# Altium footprint library Wurth_Elektronik_Passive_rev16a.PCBLIB: 810 footprints (part 21 of 51)
Each footprint in its own frame and in the unit in brackets; x right, y up, seen from the top. Pads: shape width x height; smd on the part's side, far side on the other; paste and mask are expansions set on the pad; w line width, h text height; cw(c..) or ccw(c..) is an arc to the next point about the centre after c.
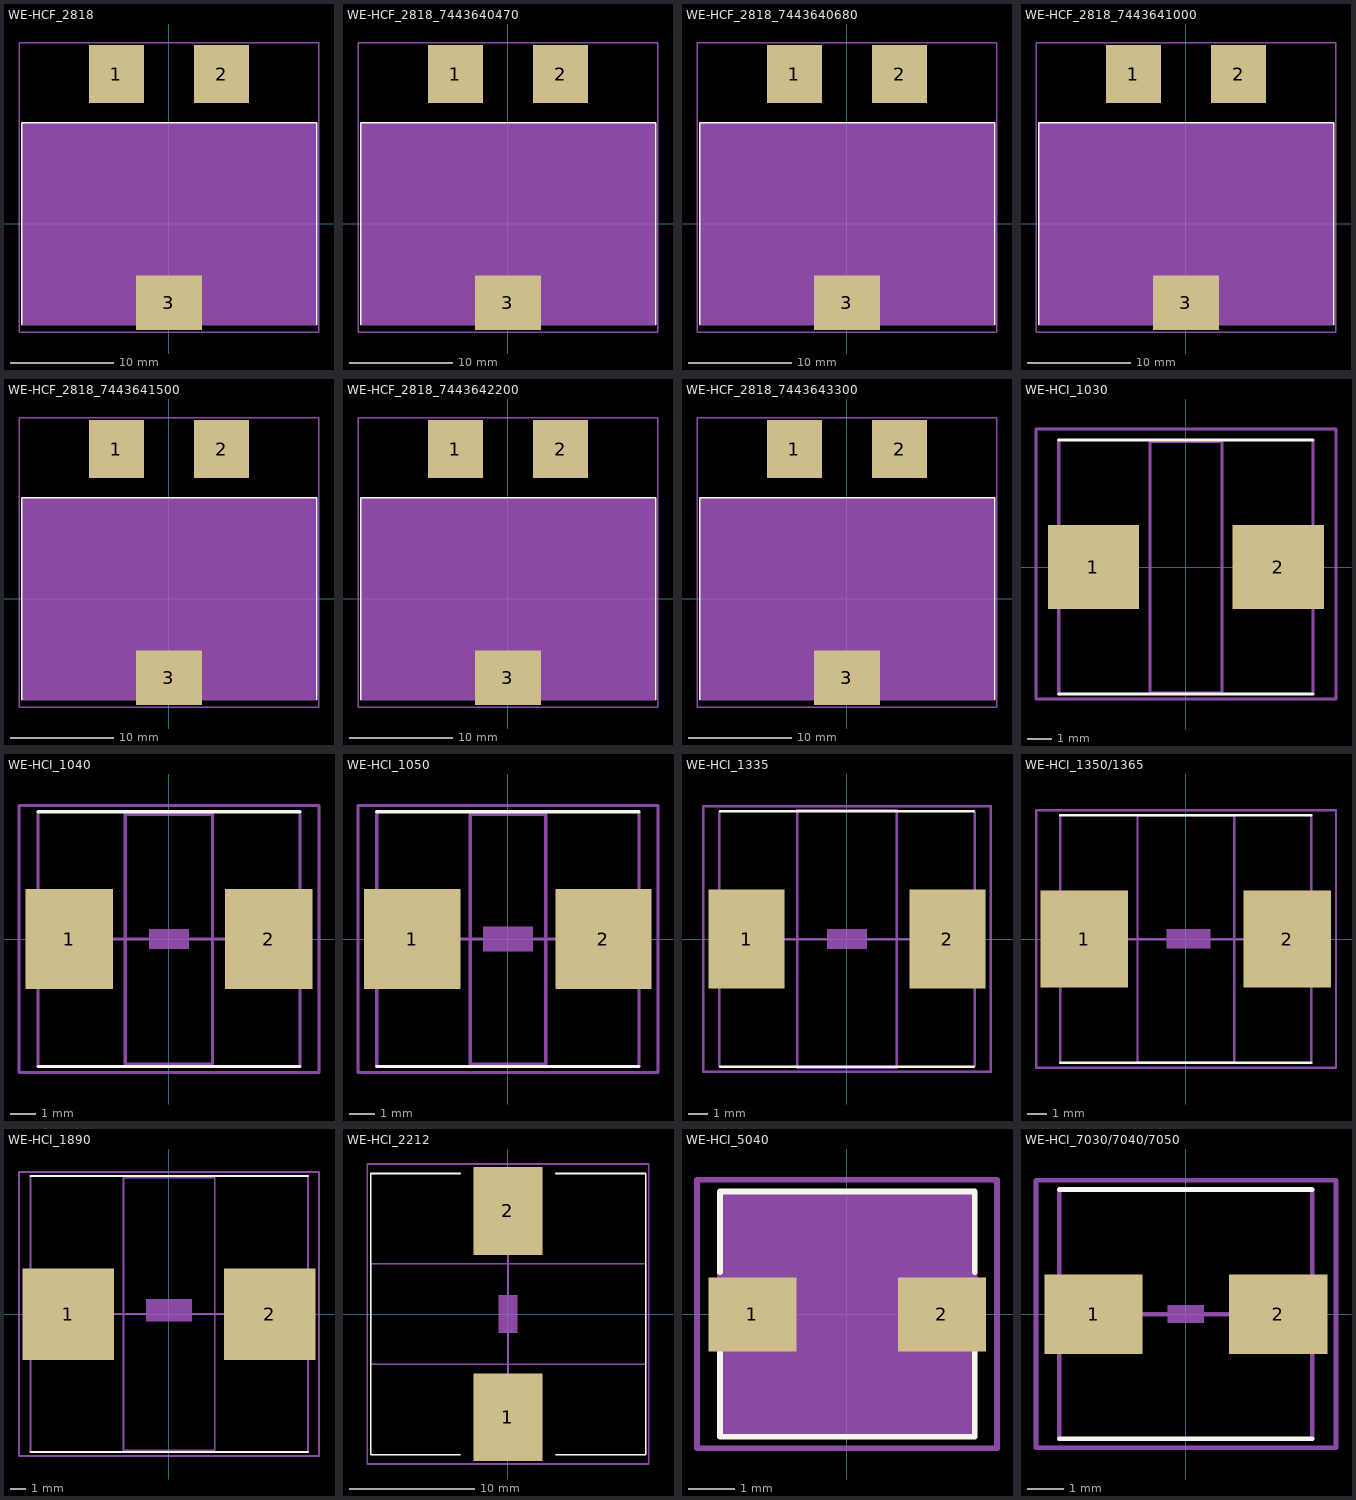
[diagram p20: the footprints below, top view; thin cyan lines are the x and y axes]

## WE-HCF_2818 [mil]
pads (3):
  rect 210x221 smd: 1(-199.8,570) 2(200,570)
  rect 250x208 smd: 3(0,-299.61)
Top Overlay:
  lines w5: -561.02,-383.86 -561.02,384 562,384 562,-383.86
Mechanical 2:
  text ">NAME" at -550,800 h77.5
  text ">VALUE" at -550,-650 h77.5
Mechanical 10:
  rectangle: -561.02,-383.86 562,384
Mechanical 16:
  lines w5: -561.02,-383.86 562,-383.86 ; -200,200 -100,200 ; 200,200 100,200 ; 100,200 100,250 -100,250 -100,150 100,150 100,200
Mechanical 27:
  lines w5: -570.87,-413.39 -570.87,690 571,690 571,-413.39 -570.87,-413.39

## WE-HCF_2818_7443640470 [mil]
pads (3):
  rect 210x221 smd: 1(-199.8,570) 2(200,570)
  rect 250x208 smd: 3(0,-299.61)
Top Overlay:
  lines w5: -561.02,-383.86 -561.02,384 562,384 562,-383.86
Mechanical 2:
  text ">NAME" at -600,800 h77.5
  text ">VALUE" at -550,-550 h77.5
Mechanical 10:
  rectangle: -561.02,-383.86 562,384
Mechanical 16:
  lines w5: -561.02,-383.86 562,-383.86 ; -200,200 -100,200 ; 200,200 100,200 ; 100,200 100,250 -100,250 -100,150 100,150 100,200
Mechanical 27:
  lines w5: -570.87,-413.39 -570.87,690 571,690 571,-413.39 -570.87,-413.39

## WE-HCF_2818_7443640680 [mil]
pads (3):
  rect 210x221 smd: 1(-199.8,570) 2(200,570)
  rect 250x208 smd: 3(0,-299.61)
Top Overlay:
  lines w5: -561.02,-383.86 -561.02,384 562,384 562,-383.86
Mechanical 2:
  text ">NAME" at -550,800 h77.5
  text ">VALUE" at -550,-550 h77.5
Mechanical 10:
  rectangle: -561.02,-383.86 562,384
Mechanical 16:
  lines w5: -561.02,-383.86 562,-383.86 ; -200,200 -100,200 ; 200,200 100,200 ; 100,200 100,250 -100,250 -100,150 100,150 100,200
Mechanical 27:
  lines w5: -570.87,-413.39 -570.87,690 571,690 571,-413.39 -570.87,-413.39

## WE-HCF_2818_7443641000 [mil]
pads (3):
  rect 210x221 smd: 1(-199.8,570) 2(200,570)
  rect 250x208 smd: 3(0,-299.61)
Top Overlay:
  lines w5: -561.02,-383.86 -561.02,384 562,384 562,-383.86
Mechanical 2:
  text ">NAME" at -600,800 h77.5
  text ">VALUE" at -550,-550 h77.5
Mechanical 10:
  rectangle: -561.02,-383.86 562,384
Mechanical 16:
  lines w5: -561.02,-383.86 562,-383.86 ; -200,200 -100,200 ; 200,200 100,200 ; 100,200 100,250 -100,250 -100,150 100,150 100,200
Mechanical 27:
  lines w5: -570.87,-413.39 -570.87,690 571,690 571,-413.39 -570.87,-413.39

## WE-HCF_2818_7443641500 [mil]
pads (3):
  rect 210x221 smd: 1(-199.8,570) 2(200,570)
  rect 250x208 smd: 3(0,-299.61)
Top Overlay:
  lines w5: -561.02,-383.86 -561.02,384 562,384 562,-383.86
Mechanical 2:
  text ">NAME" at -600,800 h77.5
  text ">VALUE" at -550,-550 h77.5
Mechanical 10:
  rectangle: -561.02,-383.86 562,384
Mechanical 16:
  lines w5: -561.02,-383.86 562,-383.86 ; -200,200 -100,200 ; 200,200 100,200 ; 100,200 100,250 -100,250 -100,150 100,150 100,200
Mechanical 27:
  lines w5: -570.87,-413.39 -570.87,690 571,690 571,-413.39 -570.87,-413.39

## WE-HCF_2818_7443642200 [mil]
pads (3):
  rect 210x221 smd: 1(-199.8,570) 2(200,570)
  rect 250x208 smd: 3(0,-299.61)
Top Overlay:
  lines w5: -561.02,-383.86 -561.02,384 562,384 562,-383.86
Mechanical 2:
  text ">NAME" at -550,750 h77.5
  text ">VALUE" at -550,-550 h77.5
Mechanical 10:
  rectangle: -561.02,-383.86 562,384
Mechanical 16:
  lines w5: -561.02,-383.86 562,-383.86 ; -200,200 -100,200 ; 200,200 100,200 ; 100,200 100,250 -100,250 -100,150 100,150 100,200
Mechanical 27:
  lines w5: -570.87,-413.39 -570.87,690 571,690 571,-413.39 -570.87,-413.39

## WE-HCF_2818_7443643300 [mil]
pads (3):
  rect 210x221 smd: 1(-199.8,570) 2(200,570)
  rect 250x208 smd: 3(0,-299.61)
Top Overlay:
  lines w5: -561.02,-383.86 -561.02,384 562,384 562,-383.86
Mechanical 2:
  text ">NAME" at -550,800 h77.5
  text ">VALUE" at -550,-550 h77.5
Mechanical 10:
  rectangle: -561.02,-383.86 562,384
Mechanical 16:
  lines w5: -561.02,-383.86 562,-383.86 ; -200,200 -100,200 ; 200,200 100,200 ; 100,200 100,250 -100,250 -100,150 100,150 100,200
Mechanical 27:
  lines w5: -570.87,-413.39 -570.87,690 571,690 571,-413.39 -570.87,-413.39

## WE-HCI_1030 [mil]
pads (2):
  rect 150x138 smd: 1(-151.57,0) 2(152,0)
Top Overlay:
  lines w5: -208.66,-208.66 209,-208.66 ; -208.66,209 209,209
Mechanical 2:
  text ">NAME" at -247.81,237 h77.5
Mechanical 4:
  text ">VALUE" at -247.81,-286.65 h77.5
Mechanical 10:
  lines w5: -59.06,-206.69 -59.06,207 60,207 60,-206.69 -59.06,-206.69
Mechanical 16:
  lines w5: -208.66,-208.66 -208.66,209 ; 209,-208.66 209,209
Mechanical 27:
  lines w5: -246.06,-216.54 -246.06,227 247,227 247,-216.54 -246.06,-216.54

## WE-HCI_1040 [mil]
pads (2):
  rect 138x158 smd: 1(-157.48,0) 2(158,0)
Top Overlay:
  lines w5: -206.69,-200.79 207,-200.79 ; -206.69,201 207,201
Mechanical 2:
  text ">NAME" at -192.91,233 h77.5
Mechanical 4:
  text ">VALUE" at -192.91,-277.56 h77.5
Mechanical 10:
  lines w5: -68.9,-196.85 -68.9,197 69,197 69,-196.85 -68.9,-196.85
Mechanical 16:
  rectangle: -31.5,-15.75 32,16
  lines w5: -206.69,-200.79 -206.69,201 ; -157.48,0 158,0 ; 207,-200.79 207,201
Mechanical 27:
  lines w5: -236.22,-210.63 -236.22,211 237,211 237,-210.63 -236.22,-210.63

## WE-HCI_1050 [mil]
pads (2):
  rect 152x158 smd: 1(-150.59,0) 2(151,0)
Top Overlay:
  lines w5: -206.69,-200.79 207,-200.79 ; -206.69,201 207,201
Mechanical 2:
  text ">NAME" at -206.69,237 h77.5
Mechanical 4:
  text ">VALUE" at -206.69,-275.59 h77.5
Mechanical 10:
  lines w5: -59.06,-196.85 -59.06,197 60,197 60,-196.85 -59.06,-196.85
Mechanical 16:
  rectangle: -39.37,-19.68 40,20
  lines w5: -206.69,-200.79 -206.69,201 ; -137.8,0 -39.37,0 ; 40,0 138,0 ; 207,-200.79 207,201
Mechanical 27:
  lines w5: -236.22,-210.63 -236.22,211 237,211 237,-210.63 -236.22,-210.63

## WE-HCI_1335 [mil]
pads (2):
  rect 152x197 smd: 1(-199.8,0) 2(200,0)
Top Overlay:
  lines w5: -251.97,-253.94 252,-253.94 ; -251.97,254 252,254
Mechanical 2:
  text ">NAME" at -246.06,296 h77.5
Mechanical 4:
  text ">VALUE" at -236.22,-334.65 h77.5
Mechanical 10:
  lines w5: -98.43,-255.91 -98.43,256 99,256 99,-255.91 -98.43,-255.91
Mechanical 16:
  rectangle: -39.37,-19.68 40,20
  lines w5: -253.94,-251.97 -253.94,252 ; -196.85,0 197,0 ; 254,-251.97 254,252
Mechanical 27:
  lines w5: -285.43,-263.78 -285.43,264 286,264 286,-263.78 -285.43,-263.78

## WE-HCI_1350/1365 [mil]
pads (2):
  rect 178x197 smd: 1(-206.69,0) 2(207,0)
Top Overlay:
  lines w5: -255.91,-251.97 256,-251.97 ; -255.91,252 256,252
Mechanical 2:
  text ">NAME" at -255.91,286 h77.5
Mechanical 4:
  text ">VALUE" at -255.91,-334.65 h77.5
Mechanical 10:
  lines w5: -98.43,-251.97 -98.43,252 99,252 99,-251.97 -98.43,-251.97
Mechanical 16:
  rectangle: -39.37,-19.68 50,20
  lines w5: -255.91,-251.97 -255.91,252 ; -196.85,0 197,0 ; 256,-251.97 256,252
Mechanical 27:
  lines w5: -305.12,-261.81 -305.12,262 306,262 306,-261.81 -305.12,-261.81

## WE-HCI_1890 [mil]
pads (2):
  rect 237x237 smd: 1(-261.81,0) 2(262,0)
Top Overlay:
  lines w5: -360.24,-358.27 361,-358.27 ; -360.24,359 361,359
Mechanical 2:
  text ">NAME" at -354.33,394 h77.5
Mechanical 4:
  text ">VALUE" at -354.33,-452.76 h77.5
Mechanical 10:
  lines w5: -118.11,-354.33 -118.11,355 119,355 119,-354.33 -118.11,-354.33
Mechanical 16:
  rectangle: -59.06,-19.68 60,40
  lines w5: -360.24,-358.27 -360.24,359 ; -255.91,0 -39.37,0 ; 60,0 237,0 ; 361,-358.27 361,359
Mechanical 27:
  lines w5: -389.76,-368.11 -389.76,369 390,369 390,-368.11 -389.76,-368.11

## WE-HCI_2212 [mil]
pads (2):
  rect 217x276 smd: 1(0,-324.8) 2(0,325)
Top Overlay:
  lines w5: -150,-442.91 -433.07,-442.91 -433.07,443 -150,443 ; 150,-442.91 434,-442.91 434,443 150,443
Mechanical 2:
  text ">NAME" at -137.8,525 h77.5
Mechanical 4:
  text ">VALUE" at -137.8,-583.07 h77.5
Mechanical 10:
  lines w5: -433.07,-157.48 434,-157.48 434,158 -433.07,158 -433.07,-157.48
Mechanical 16:
  region: 30.31,-59.21 30.32,59.69 -29.21,59.69 -29.21,-59.21
  lines w5: 0,-255.91 0,-39.37 ; 0,40 0,237
Mechanical 27:
  lines w5: -442.91,-472.44 -442.91,473 443,473 443,-472.44 -442.91,-472.44

## WE-HCI_5040 [mil]
pads (2):
  rect 75x63 smd: 1(-80.71,0) 2(81,0)
Top Overlay:
  lines w5: -108.27,-31.5 -108.27,-104.33 109,-104.33 109,-31.5 ; -108.27,36 -108.27,105 109,105 109,36
Mechanical 2:
  text ">NAME" at -100,150 h77.5
Mechanical 4:
  text ">VALUE" at -100,-200 h77.5
Mechanical 10:
  rectangle: -106.3,-102.36 107,103
Mechanical 16:
  lines w5: -108.27,-31.5 -108.27,36 ; 109,-31.5 109,36
Mechanical 27:
  lines w5: -127.95,-114.17 -127.95,115 128,115 128,-114.17 -127.95,-114.17

## WE-HCI_7030/7040/7050 [mil]
pads (2):
  rect 107x87 smd: 1(-100.39,0) 2(101,0)
Top Overlay:
  lines w5: -137.8,-135.83 138,-135.83 ; -137.8,136 138,136
Mechanical 2:
  text ">NAME" at -127.95,-206.69 h77.5
Mechanical 4:
  text ">VALUE" at -137.8,158 h77.5
Mechanical 16:
  rectangle: -19.68,-9.84 20,10
  lines w5: -137.8,-135.83 -137.8,136 ; -98.43,0 99,0 ; 138,-135.83 138,136
Mechanical 27:
  lines w5: -163.39,-145.67 -163.39,146 164,146 164,-145.67 -163.39,-145.67